# EAGLE library part R-ARRAY-ISO6 (library 4ms-main-parts)
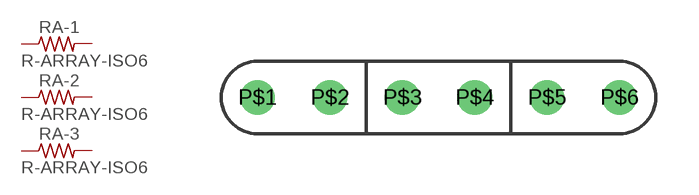
[diagram p23: symbol with the pads of R-ARRAY-SIP6-ISO; footprint R-ARRAY-SIP6-ISO]

Designator prefix RA; gates -1=R -2=R -3=R

## R-ARRAY-ISO6-TH  [R-ARRAY-SIP6-ISO]
P$1  -1:1  pas
P$2  -1:2  pas
P$3  -2:1  pas
P$4  -2:2  pas
P$5  -3:1  pas
P$6  -3:2  pas

## Footprint R-ARRAY-SIP6-ISO (pad centres in mm)
drill 0.711: P$1 -6.35,0; P$2 -3.81,0; P$3 -1.27,0; P$4 1.27,0; P$5 3.81,0; P$6 6.35,0